# EAGLE library part SMF05CT1G (library SpiderCell_Libs)
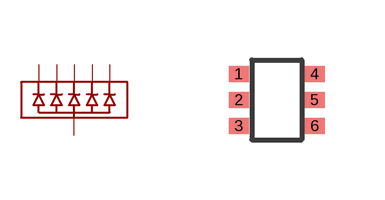
[diagram p2: symbol with the pads of SMF05CT1G; footprint SMF05CT1G]

Designator prefix -

## SMF05CT1G  [SMF05CT1G]
1  P1
2  P2
3  P3
4  P4
5  P5
6  P6

## Footprint SMF05CT1G (pad centres in mm)
smd 0.5 x 0.4: 1 -0.95,0.65; 2 -0.95,0; 3 -0.95,-0.65; 4 0.95,0.65; 5 0.95,0; 6 0.95,-0.65